# Altium footprint library MOLEX_530480910.PcbLib: 1 footprints
Each footprint in its own frame and in the unit in brackets; x right, y up, seen from the top. Pads: shape width x height; smd on the part's side, far side on the other; paste and mask are expansions set on the pad; w line width, h text height; cw(c..) or ccw(c..) is an arc to the next point about the centre after c.
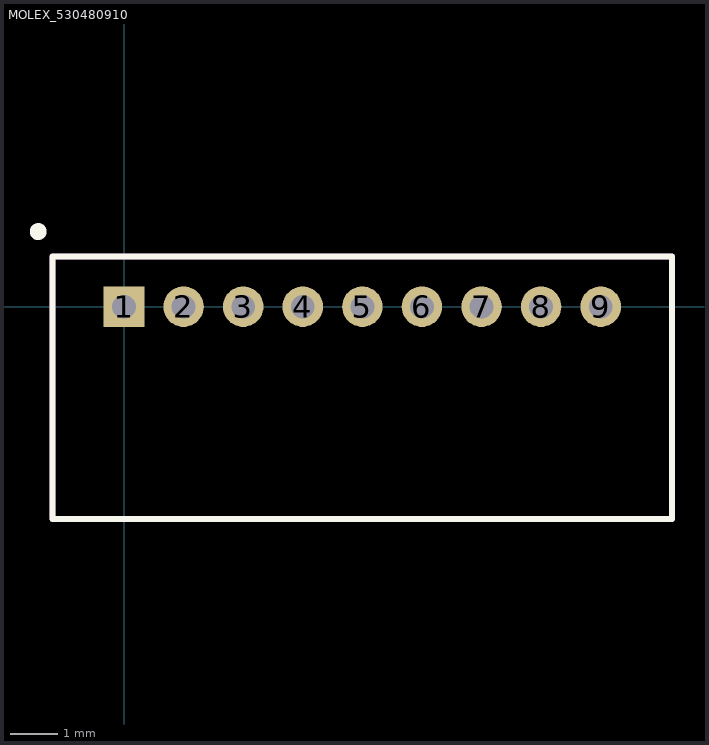
[diagram p0: the footprint, top view; thin cyan lines are the x and y axes]

## MOLEX_530480910 [mm]
height 3.5
pads (9):
  rect 0.85x0.85 / inner round 0.85 / far side rect 0.85x0.85 hole 0.5 mask+0.076: 1(0,0)
  round 0.85 hole 0.5 mask+0.076: 2(1.25,0) 3(2.5,0) 4(3.75,0) 5(5,0) 6(6.25,0) 7(7.5,0) 8(8.75,0) 9(10,0)
Top Overlay:
  circle w0.254: c-1.8,1.575 r0.05
  lines w0.127: -1.5,-4.45 -1.5,1.05 11.5,1.05 11.5,-4.45 -1.5,-4.45
Mechanical 13:
  lines w0.127: -1.5,-4.45 -1.5,1.05 11.5,1.05 11.5,-4.45 -1.5,-4.45